# Altium footprint library UI.PcbLib: 8 footprints
Each footprint in its own frame and in the unit in brackets; x right, y up, seen from the top. Pads: shape width x height; smd on the part's side, far side on the other; paste and mask are expansions set on the pad; w line width, h text height; cw(c..) or ccw(c..) is an arc to the next point about the centre after c.
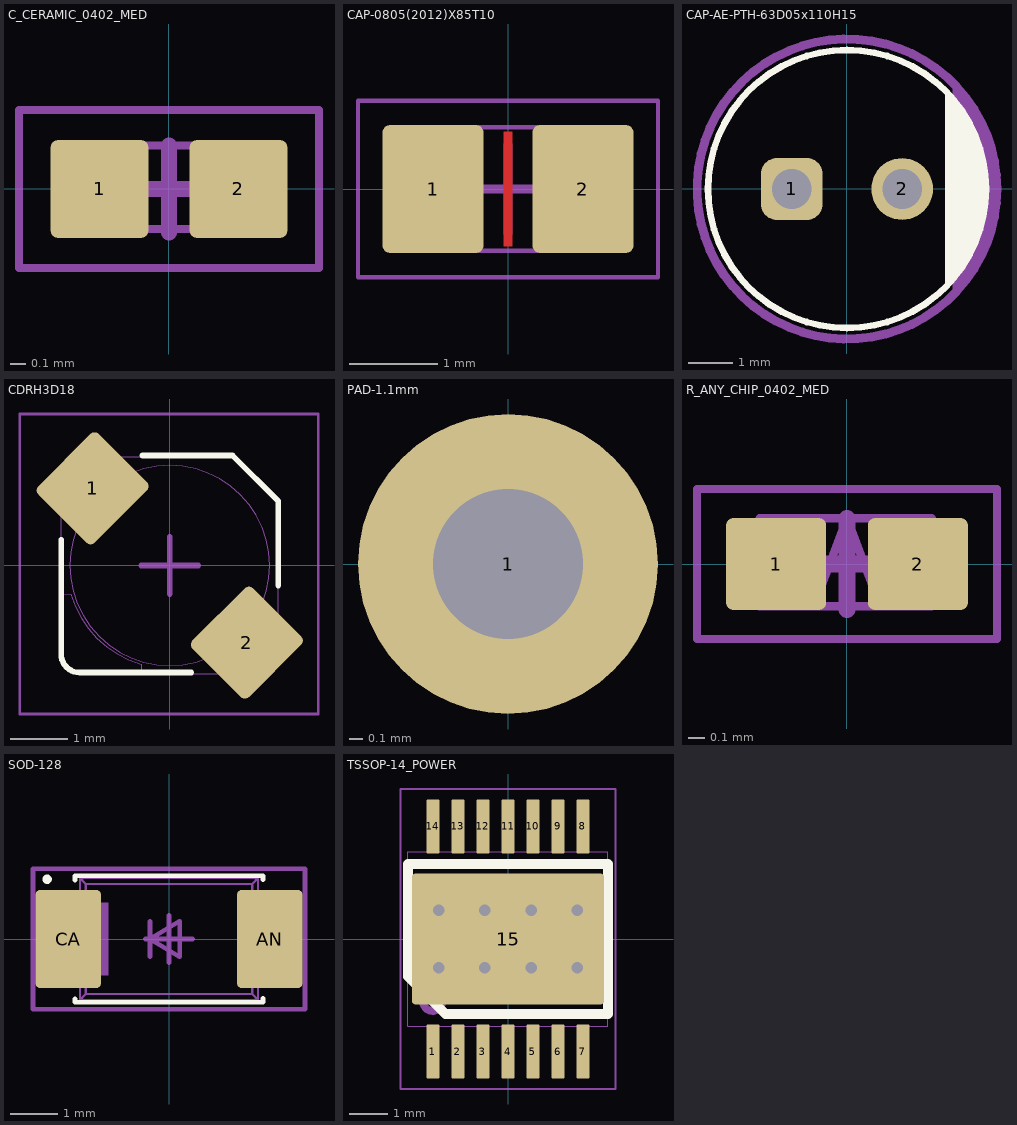
[diagram p0: the footprints below, top view; thin cyan lines are the x and y axes]

## C_CERAMIC_0402_MED [mm]
pads (2):
  rrect15% 0.62x0.62 smd mask+0.05: 1(-0.44,0) 2(0.44,0)
Top Assembly:
  region: 0.525,0.275 0.254,0.275 0.254,-0.254 0.525,-0.254
  rectangle: -0.525,-0.254 -0.254,0.275
  lines w0.05: -0.525,-0.254 0.508,-0.254 0.508,0.275 -0.525,0.275 -0.525,-0.254
Top Courtyard:
  lines w0.05: -0.95,-0.5 -0.95,0.5 0.95,0.5 0.95,-0.5 -0.95,-0.5
  lines w0.1: -0.275,0 0.275,0 ; 0,-0.275 0,0.275
Top Designator:
  text ".Designator" at -2,1.3 h0.5
Top Value:
  text ".Comment" at -2,0.6 h0.5
3D body "C0402.STEP": height 0.55, standoff 0, extent -0.525,-0.275 0.525,0.275

## CAP-0805(2012)X85T10 [mm]
pads (2):
  rrect15% 1.15x1.45 smd mask+0.05: 1(-0.85,0) 2(0.85,0)
Top Layer:
  pour cut-out: -0.05,0.651 0.05,0.651 0.05,-0.649 -0.05,-0.649
Top Assembly:
  rectangle: -1.106,-0.7 -0.7,0.7
  region: 1.106,0.7 0.7,0.7 0.7,-0.7 1.106,-0.7
  lines w0.05: -1.1,-0.7 -1.1,0.7 1.1,0.7 1.1,-0.7 -1.1,-0.7
Top Courtyard:
  lines w0.05: -1.7,-1 1.7,-1 1.7,1 -1.7,1 -1.7,-1
  lines w0.1: -0.5,0 0.5,0 ; 0,-0.5 0,0.5
Top Designator:
  text ".Designator" at -1.7,1.75 h0.5
Top Value:
  text ".Comment" at -1.7,1.15 h0.5
3D body "C0805(2012)085T10.STEP": height 0.95, standoff 0, extent -1.1,-0.725 1.1,0.725

## CAP-AE-PTH-63D05x110H15 [mm]
pads (2):
  rrect50% 1.4x1.4 hole 0.9: 1(-1.25,0)
  round 1.4 hole 0.9: 2(1.25,0)
Top Overlay:
  circle w0.15: c0,0 r3.15
  region: 2.227,-2.25 2.227,2.227 2.373,2.08 2.624,1.75 2.83,1.391 2.988,1.007 3.094,0.607 3.148,0.196 3.148,-0.219 3.094,-0.629 2.988,-1.03 2.83,-1.413 2.624,-1.773 2.373,-2.103
Top Assembly:
  circle w0.5: c1.25,-0.021 r0.3
  circle w0.2: c0,0 r3.4
  rectangle: -1.75,-0.5 -0.75,0.5
  region: 2.4,-2.35 2.4,2.35 2.553,2.195 2.816,1.849 3.033,1.472 3.198,1.069 3.31,0.649 3.366,0.218 3.366,-0.218 3.31,-0.649 3.198,-1.069 3.033,-1.472 2.816,-1.849 2.553,-2.195
  text "+" at -1.5,0.954 h0.9
Top Designator:
  text ".Designator" at -1.9,4.7 h0.5
Top Value:
  text ".Comment" at -1.9,4.05 h0.5
3D body "C_6.8x12.5 v1.step": height 12.5, standoff -1.5, extent -3.4,-3.4 3.4,3.4

## CDRH3D18 [mm]
pads (2):
  rrect15% 1.4x1.5 smd rot 135 mask+0.05: 1(-1.35,1.35) 2(1.35,-1.35)
Top Overlay:
  lines w0.1: -1.9,0.45 -1.9,-1.55 ccw(c-1.575,-1.55) -1.575,-1.875 0.375,-1.875 ; -0.475,1.925 1.1,1.925 1.9,1.125 1.9,-0.35
Top Assembly:
  circle w0.01: c0,0 r1.75
  lines w0.01: -1.9,-0.5 -1.729,-0.501 ccw(c0,0) -0.501,-1.729 -0.5,-1.9 ; -1.8,0.9 -0.9,1.8 ; -1.737,0.838 -0.838,1.737 ; -1.65,0.65 -1.9,0.9 ; -1.625,0.725 -1.85,0.95 ; -0.725,1.625 -0.95,1.85 ; -0.65,1.65 -0.9,1.9 ; 0.65,-1.65 0.9,-1.9 ; 0.725,-1.625 0.95,-1.85 ; 0.838,-1.737 1.738,-0.837 ; 0.9,-1.8 1.8,-0.9 ; 1.625,-0.725 1.85,-0.95 ; 1.65,-0.65 1.9,-0.9 ; -1.9,0.9 -1.9,-1.575 ccw(c-1.575,-1.575) -1.575,-1.9 0.9,-1.9 ; -1.9,0.9 -1.85,0.95 ; -1.85,0.95 -1.85,1.023 cw(c-1.423,1.023) -1.725,1.325 -1.325,1.725 cw(c-1.023,1.423) -1.023,1.85 -0.95,1.85 ; -0.95,1.85 -0.9,1.9 ; -0.9,1.9 1.1,1.9 1.9,1.1 1.9,-0.9 ; 0.9,-1.9 0.95,-1.85 ; 0.95,-1.85 1.023,-1.85 ccw(c1.023,-1.423) 1.325,-1.725 1.725,-1.325 ccw(c1.423,-1.023) 1.85,-1.023 1.85,-0.95 ; 1.85,-0.95 1.9,-0.9
Top Courtyard:
  lines w0.05: -2.625,-2.6 2.6,-2.6 2.6,2.65 -2.625,2.65 -2.625,-2.6
  lines w0.1: -0.5,0 0.5,0 ; 0,-0.5 0,0.5
Top Designator:
  text ".Designator" at -1.25,3.5 h0.5
Top Value:
  text ".Comment" at -1.275,2.85 h0.5
3D body "cdrh3d18.STEP": height 2, standoff 0, extent -2.02,-2.02 2.02,2.02

## PAD-1.1mm [mm]
pads (1):
  round 2.2 hole 1.1: 1(0,0)
Top Assembly:
  circle w0.1: c0,0 r0.8
  lines w0.1: -0.8,0 0.8,0 ; 0,-0.8 0,0.8
Top Designator:
  text ".Designator" at -1.6,1.9 h0.5
Top Value:
  text ".Comment" at -1.562,1.3 h0.5

## R_ANY_CHIP_0402_MED [mm]
pads (2):
  rrect15% 0.6x0.55 smd mask+0.05: 1(-0.425,0) 2(0.425,0)
Top Assembly:
  rectangle: -0.525,-0.254 -0.4,0.275
  region: 0.525,0.275 0.4,0.275 0.4,-0.254 0.525,-0.254
  lines w0.05: -0.4,0.275 -0.2,-0.254 0,0.275 0.2,-0.254 0.4,0.275 ; -0.525,-0.254 -0.525,0.275 0.508,0.275 0.508,-0.254 -0.525,-0.254
Top Courtyard:
  lines w0.05: -0.9,-0.45 0.9,-0.45 0.9,0.45 -0.9,0.45 -0.9,-0.45
  lines w0.1: -0.275,0 0.275,0 ; 0,-0.275 0,0.275
Top Designator:
  text ".Designator" at -1.85,1.25 h0.5
Top Value:
  text ".Comment" at -1.85,0.65 h0.5
3D body "RC0402.STEP": height 0.4, standoff 0, extent -0.525,-0.275 0.525,0.275

## SOD-128 [mm]
pads (2):
  rrect15% 1.4x2.1 smd mask+0.05: AN(2.15,0) CA(-2.15,0)
Top Overlay:
  circle w0.1: c-2.6,1.275 r0.05
  lines w0.1: -2.007,-1.279 -2.007,-1.346 2.007,-1.346 2.007,-1.27 ; -2.007,1.254 -2.007,1.346 2.007,1.346 2.007,1.269
Top Assembly:
  region: -1.625,-0.775 -1.3,-0.775 -1.3,0.775 -1.625,0.775
  lines w0.05: -1.9,-0.9 -2.4,-0.9 -2.4,0.9 -1.9,0.9 ; 1.9,-0.9 2.4,-0.9 2.4,0.9 1.9,0.9 ; -1.9,-1.3 -1.775,-1.175 ; -1.9,-1.3 1.9,-1.3 ; -1.9,-1.3 -1.9,1.3 ; -1.9,1.3 -1.775,1.175 ; -1.9,1.3 1.9,1.3 ; -1.775,-1.175 -1.775,1.175 ; -1.775,-1.175 1.775,-1.175 ; -1.775,1.175 1.775,1.175 ; 1.775,-1.175 1.775,1.175 ; 1.775,-1.175 1.9,-1.3 ; 1.775,1.175 1.9,1.3 ; 1.9,-1.3 1.9,1.3
  lines w0.1: -0.406,-0.381 -0.406,0.381 ; -0.406,0 0.229,-0.381 0.229,0.381 -0.406,0
Top Courtyard:
  lines w0.1: -0.5,0 0.5,0 ; 0,-0.5 0,0.5 ; -2.9,-1.5 2.9,-1.5 2.9,1.5 -2.9,1.5 -2.9,-1.5
Top Designator:
  text ".Designator" at -1.875,2.425 h0.5
Top Value:
  text ".Comment" at -1.875,1.775 h0.5
3D body "SOD128.STEP": height 1.1, standoff -0.01, extent -2.5,-1.35 2.5,1.35

## TSSOP-14_POWER [mm]
pads (15):
  rrect15% 0.35x1.4 smd paste+0 mask+0.05: 1(-1.95,-2.925) 2(-1.3,-2.925) 3(-0.65,-2.925) 4(0,-2.925) 5(0.65,-2.925) 6(1.3,-2.925) 7(1.95,-2.925) 8(1.95,2.925) 9(1.3,2.925) 10(0.65,2.925) 11(0,2.925) 12(-0.65,2.925) 13(-1.3,2.925) 14(-1.95,2.925)
  rrect5% 5x3.4 smd paste-2.5 mask-2.5: 15(0,0)
via -1.8,0.75 diameter 0.65 hole 0.3
via -1.8,-0.75 diameter 0.65 hole 0.3
via 1.8,0.75 diameter 0.65 hole 0.3
via 1.8,-0.75 diameter 0.65 hole 0.3
via 0.6,0.75 diameter 0.65 hole 0.3
via 0.6,-0.75 diameter 0.65 hole 0.3
via -0.6,0.75 diameter 0.65 hole 0.3
via -0.6,-0.75 diameter 0.65 hole 0.3
Top Overlay:
  lines w0.254: -2.6,-0.975 -2.6,1.95 2.6,1.95 2.6,-1.95 -1.625,-1.95 -2.6,-0.975
Top Paste:
  region: 1.155,1.23 -1.155,1.23 -1.155,-1.23 1.155,-1.23
Top Solder:
  region: 1.155,1.23 -1.155,1.23 -1.155,-1.23 1.155,-1.23
Top Assembly:
  circle w0.2: c-1.96,-1.62 r0.25
  lines w0.025: -2.08,-2.6 -1.82,-2.6 ; -2.08,-2.275 -2.08,-3.185 -1.82,-3.185 -1.82,-2.275 ; -2.08,2.275 -2.08,3.185 -1.82,3.185 -1.82,2.275 ; -2.08,2.6 -1.82,2.6 ; -1.43,-2.6 -1.17,-2.6 ; -1.43,-2.275 -1.43,-3.185 -1.17,-3.185 -1.17,-2.275 ; -1.43,2.275 -1.43,3.185 -1.17,3.185 -1.17,2.275 ; -1.43,2.6 -1.17,2.6 ; -0.78,-2.6 -0.52,-2.6 ; -0.78,-2.275 -0.78,-3.185 -0.52,-3.185 -0.52,-2.275 ; -0.78,2.275 -0.78,3.185 -0.52,3.185 -0.52,2.275 ; -0.78,2.6 -0.52,2.6 ; -0.13,-2.6 0.13,-2.6 ; -0.13,-2.275 -0.13,-3.185 0.13,-3.185 0.13,-2.275 ; -0.13,2.275 -0.13,3.185 0.13,3.185 0.13,2.275 ; -0.13,2.6 0.13,2.6 ; 0.52,-2.6 0.78,-2.6 ; 0.52,-2.275 0.52,-3.185 0.78,-3.185 0.78,-2.275 ; 0.52,2.275 0.52,3.185 0.78,3.185 0.78,2.275 ; 0.52,2.6 0.78,2.6 ; 1.17,-2.6 1.43,-2.6 ; 1.17,-2.275 1.17,-3.185 1.43,-3.185 1.43,-2.275 ; 1.17,2.275 1.17,3.185 1.43,3.185 1.43,2.275 ; 1.17,2.6 1.43,2.6 ; 1.82,-2.6 2.08,-2.6 ; 1.82,-2.275 1.82,-3.185 2.08,-3.185 2.08,-2.275 ; 1.82,2.275 1.82,3.185 2.08,3.185 2.08,2.275 ; 1.82,2.6 2.08,2.6 ; -2.6,-2.275 -2.6,2.275 2.6,2.275 2.6,-2.275 -2.6,-2.275
Top Courtyard:
  lines w0.05: -2.8,-3.9 -2.8,3.9 2.8,3.9 2.8,-3.9 -2.8,-3.9
  lines w0.1: -0.5,0 0.5,0 ; 0,-0.5 0,0.5
Top Designator:
  text ".Designator" at -1.865,4.824 h0.5
Top Value:
  text ".Comment" at -1.865,4.087 h0.5
3D body "HTSSOP-14.step": height 1.2, standoff 0, extent -2.55,-3.3 2.55,3.3